# Altium footprint library MFP10S.PcbLib: 1 footprints
Each footprint in its own frame and in the unit in brackets; x right, y up, seen from the top. Pads: shape width x height; smd on the part's side, far side on the other; paste and mask are expansions set on the pad; w line width, h text height; cw(c..) or ccw(c..) is an arc to the next point about the centre after c.
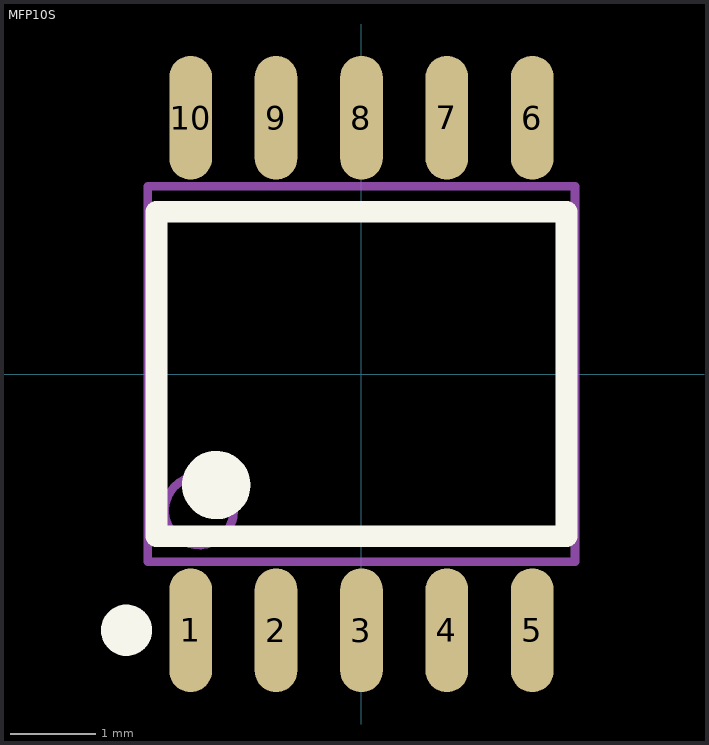
[diagram p0: the footprint, top view; thin cyan lines are the x and y axes]

## MFP10S [mm] "MFP10S(K)"
pads (10):
  oval 0.5x1.45 smd: 1(-2,-3) 2(-1,-3) 3(0,-3) 4(1,-3) 5(2,-3) 6(2,3) 7(1,3) 8(0,3) 9(-1,3) 10(-2,3)
Top Overlay:
  circle w0.4: c-1.7,-1.3 r0.2
  circle w0.3: c-2.75,-3 r0.15
  lines w0.254: -2.4,-1.9 -2.4,1.9 2.4,1.9 2.4,-1.9 -2.4,-1.9
Mechanical 13:
  circle w0.1: c-1.9,-1.6 r0.403
  lines w0.1: -2.5,-2.2 -2.5,2.2 2.5,2.2 2.5,-2.2 -2.5,-2.2